# EAGLE library part XADC (library zed-board)
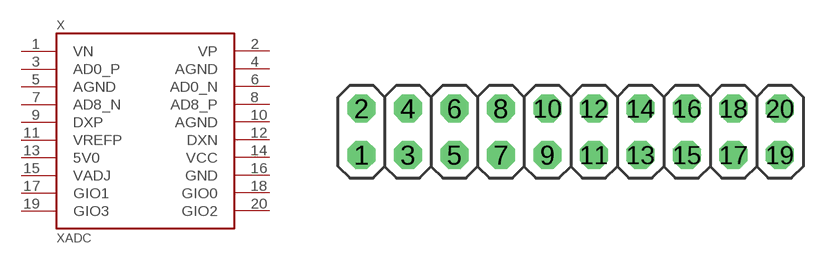
[diagram p1: symbol with the pads of XADC_2X10; footprint XADC_2X10]

Designator prefix X

## XADC  [XADC_2X10]
1  VN
2  VP
3  AD0_P
4  AGND
5  AGND
6  AD0_N
7  AD8_N
8  AD8_P
9  DXP
10  AGND
11  VREFP
12  DXN
13  5V0
14  VCC
15  VADJ
16  GND
17  GIO1
18  GIO0
19  GIO3
20  GIO2

## Footprint XADC_2X10 (pad centres in mm)
PIN HEADER
drill 1.016 octagon: 1 -11.43,-1.27; 2 -11.43,1.27; 3 -8.89,-1.27; 4 -8.89,1.27; 5 -6.35,-1.27; 6 -6.35,1.27; 7 -3.81,-1.27; 8 -3.81,1.27; 9 -1.27,-1.27; 10 -1.27,1.27; 11 1.27,-1.27; 12 1.27,1.27; 13 3.81,-1.27; 14 3.81,1.27; 15 6.35,-1.27; 16 6.35,1.27; 17 8.89,-1.27; 18 8.89,1.27; 19 11.43,-1.27; 20 11.43,1.27